# Altium integrated library B2B-PH-SM4-TB.IntLib: 1 symbol
Pins are listed as number, name and electrical type; pins without a type are passive.

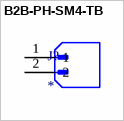
[diagram p0: symbol B2B-PH-SM4-TB]

## B2B-PH-SM4-TB
designator J?
Connector Header Surface Mount 2 position 0.079 (2.00mm); MP: B2B-PH-SM4-TB; MF: JST; Check_prices: https://www.snapeda.com/parts/B2B-PH-SM4-TB/JST/view-part/?ref=eda; Package: NON STANDARD-2 JST; Value: *; Purchase-URL: https://pricing.snapeda.com/search/part/B2B-PH-SM4-TB/?ref=eda; SnapEDA_Link: https://www.snapeda.com/parts/B2B-PH-SM4-TB/JST/view-part/?ref=snap; Availability: In Stock; Price: None
footprint JST_B2B-PH-SM4-TB
pins: 1, 2